# Altium schematic symbol library LED IR.SchLib: 1 symbol
Pins are listed as number, name and electrical type; pins without a type are passive.

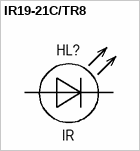
[diagram p0: symbol IR19-21C/TR8]

## IR19-21C/TR8
designator HL?, comment IR
LED IR 0603(1608); Manufacturer: Everlight Electronics; Part name: IR19-21C/TR8; Wavelength: 940nm; Forward current: 65mA; Forward voltage: 1.2V; Component: LED Indication; Group: Discrete; Package: 0603 (1608); Operating temperature: -40°C +85°C; Color: IR; Mounting type: Surface mount; Dimension: 1.60mm x 0.80mm; Height: 0.90mm
footprint LED IR 0603N
pins: A Anode, C Cathode